# Altium footprint library PAL.PcbLib: 209 footprints (part 2 of 14)
Each footprint in its own frame and in the unit in brackets; x right, y up, seen from the top. Pads: shape width x height; smd on the part's side, far side on the other; paste and mask are expansions set on the pad; w line width, h text height; cw(c..) or ccw(c..) is an arc to the next point about the centre after c.
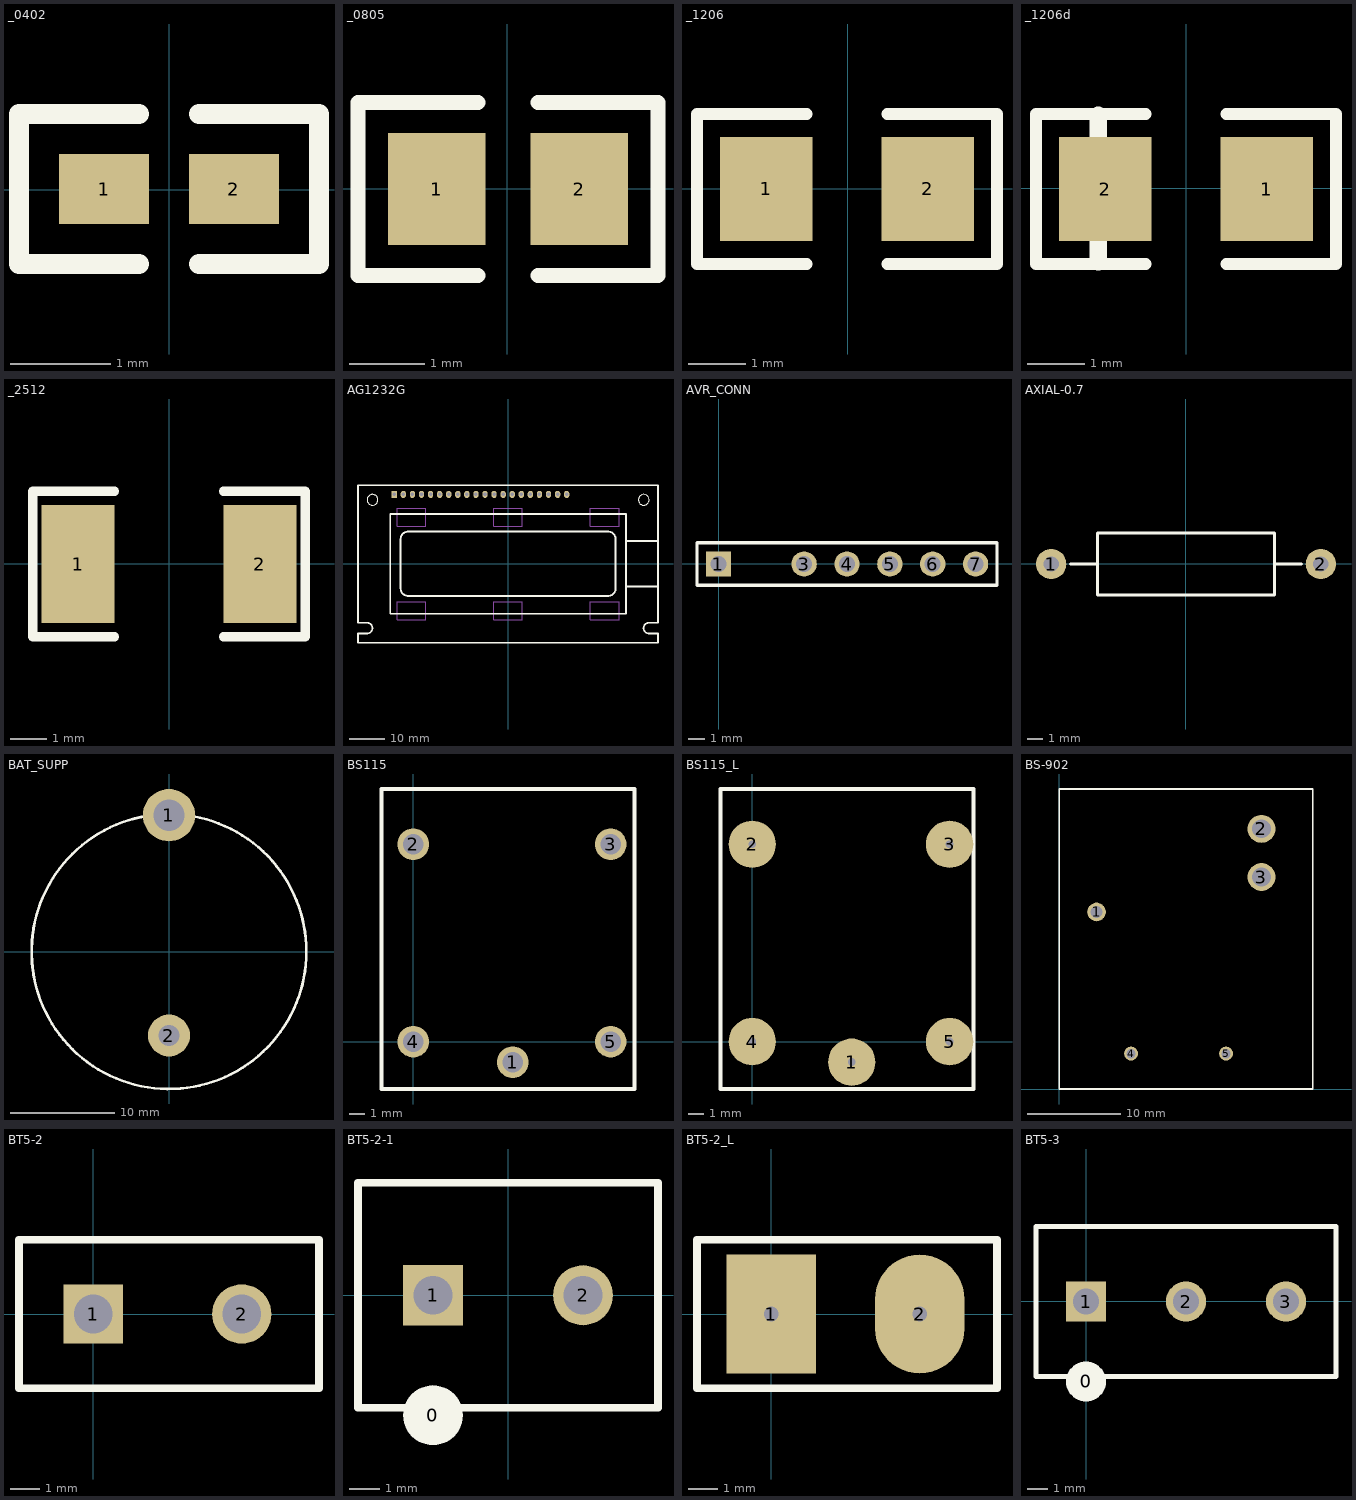
[diagram p1: the footprints below, top view; thin cyan lines are the x and y axes]

## _0402 [mm]
pads (2):
  rect 0.9x0.7 smd: 1(-0.651,0.007) 2(0.649,0.007)
Top Overlay:
  lines w0.2: -0.301,-0.743 -1.501,-0.743 -1.501,0.757 -0.301,0.757 ; 0.299,-0.743 1.499,-0.743 1.499,0.757 0.299,0.757

## _0805 [mm]
pads (2):
  rect 1.3x1.5 smd: 1(-0.942,-0.005) 2(0.958,-0.005)
Top Overlay:
  lines w0.2: -0.392,-1.155 -1.992,-1.155 -1.992,1.145 -0.392,1.145 ; 0.408,-1.155 2.008,-1.155 2.008,1.145 0.408,1.145

## _1206 [mm]
pads (2):
  rect 1.6x1.8 smd: 1(-1.412,-0.007) 2(1.388,-0.007)
Top Overlay:
  lines w0.2: -0.712,-1.307 -2.612,-1.307 -2.612,1.293 -0.712,1.293 ; 0.688,-1.307 2.588,-1.307 2.588,1.293 0.688,1.293

## _1206d [mm]
pads (2):
  rect 1.6x1.8 smd: 1(1.395,-0.009) 2(-1.405,-0.009)
Top Overlay:
  lines w0.2: -0.705,-1.309 -2.605,-1.309 -2.605,1.291 -0.705,1.291 ; 0.695,-1.309 2.595,-1.309 2.595,1.291 0.695,1.291
  lines w0.3: -1.524,-1.27 -1.524,1.27

## _2512 [mm]
pads (2):
  rect 2x3.25 smd: 1(-2.501,-0.008) 2(2.499,-0.008)
Top Overlay:
  lines w0.254: -1.501,-2.008 -3.751,-2.008 -3.751,1.992 -1.501,1.992 ; 1.499,-2.008 3.749,-2.008 3.749,1.992 1.499,1.992

## AG1232G [mm]
pads (20):
  rect 1.5x2 hole 1: 1(-31.872,19.422)
  oval 1.5x2 hole 1: 2(-29.332,19.422) 3(-26.792,19.422) 4(-24.252,19.422) 5(-21.712,19.422) 6(-19.172,19.422) 7(-16.632,19.422) 8(-14.092,19.422) 9(-11.552,19.422) 10(-9.012,19.422) 11(-6.472,19.422) 12(-3.932,19.422) 13(-1.392,19.422) 14(1.148,19.422) 15(3.688,19.422) 16(6.228,19.422) 17(8.768,19.422) 18(11.308,19.422) 19(13.848,19.422) 20(16.388,19.422)
Top Overlay:
  circle w0.254: c-37.968,17.898 r1.5
  circle w0.254: c37.978,17.898 r1.5
  circle w0.5: c-27.935,-9.026 r0
  lines w0.48: -39.492,-19.543 ccw(c-39.492,-18.043) -39.492,-16.543 ; 39.428,-19.543 cw(c39.428,-18.043) 39.428,-16.543
  lines w0.5: -42.008,-19.543 -42.032,-19.567 ; -39.516,-19.567 -42.032,-19.567 ; -39.492,-16.543 -42.008,-16.543 -42.032,-16.519 -42.032,21.962 41.915,21.962 41.968,21.909 ; 33.025,-6.359 41.968,-6.359 ; 33.025,6.341 41.968,6.341 ; 39.428,-16.543 41.944,-16.543 ; 39.452,-19.567 41.968,-19.567 41.968,-22.107 -42.032,-22.107 -42.032,-19.567 ; 41.968,-16.519 41.968,21.962 ; -33.015,-13.979 0.005,-13.979 33.025,-13.979 33.025,-0.009 33.025,13.961 0.005,13.961 -33.015,13.961 -33.015,-0.009 -33.015,-13.979 ; -30.094,-6.994 ccw(c-27.998,-6.93) -27.935,-9.026 0.005,-9.026 27.945,-9.026 ccw(c28.009,-6.93) 30.104,-6.994 30.104,-0.009 30.104,6.976 ccw(c28.009,6.913) 27.945,9.008 0.005,9.008 -27.935,9.008 ccw(c-27.998,6.913) -30.094,6.976 -30.094,-0.009 -30.094,-6.994
Mechanical 1:
  lines w0.3: -3.993,10.537 -3.993,15.537 ; -3.993,10.537 4.007,10.537 ; -3.993,10.537 -3.993,15.537 ; -3.993,10.537 4.007,10.537 ; -3.993,15.537 4.007,15.537 ; -3.993,15.537 4.007,15.537 ; 4.007,10.537 4.007,15.537 ; 4.007,10.537 4.007,15.537 ; -31.044,-15.625 -31.044,-10.625 -23.044,-10.625 -23.044,-15.625 -31.044,-15.625 ; -31.044,10.537 -31.044,15.537 -23.044,15.537 -23.044,10.537 -31.044,10.537 ; -3.993,-15.625 -3.993,-10.625 4.007,-10.625 4.007,-15.625 -3.993,-15.625 ; 23.058,-15.625 23.058,-10.625 31.058,-10.625 31.058,-15.625 23.058,-15.625 ; 23.058,10.537 23.058,15.537 31.058,15.537 31.058,10.537 23.058,10.537

## AVR_CONN [mm]
pads (6):
  rect 1.5x1.5 hole 0.95: 1(-0.007,-0.001)
  round 1.5 hole 0.95: 3(5.073,-0.001) 4(7.613,-0.001) 5(10.153,-0.001) 6(12.693,-0.001) 7(15.233,-0.001)
Top Overlay:
  lines w0.2: -1.277,-1.271 -1.277,1.269 16.503,1.269 16.503,-1.271 -1.277,-1.271

## AXIAL-0.7 [mm]
pads (2):
  round 2 hole 1: 1(-8.887,-0.008) 2(8.893,-0.008)
Top Overlay:
  lines w0.2: -7.617,-0.008 -5.839,-0.008 ; 5.845,-0.008 7.623,-0.008 ; -5.839,-2.04 -5.839,2.024 5.845,2.024 5.845,-2.04 -5.839,-2.04

## BAT_SUPP [mm]
pads (2):
  round 5 hole 3: 1(-0.009,12.995)
  round 4 hole 2: 2(-0.009,-8.005)
Top Overlay:
  circle w0.254: c-0.009,-0.005 r13.1

## BS115 [mm]
pads (5):
  round 2 hole 1.3: 1(6.292,-1.304) 2(-0.008,12.496) 3(12.492,12.496) 4(-0.008,-0.004) 5(12.492,-0.004)
Top Overlay:
  lines w0.254: -2.008,-3.004 -2.008,15.996 13.992,15.996 13.992,-3.004 6.292,-3.004 -2.008,-3.004

## BS115_L [mm]
pads (5):
  round 3 hole 0.5: 1(6.292,-1.304) 2(-0.008,12.496) 3(12.492,12.496) 4(-0.008,-0.004) 5(12.492,-0.004)
Top Overlay:
  lines w0.254: -2.008,-3.004 -2.008,15.996 13.992,15.996 13.992,-3.004 6.292,-3.004 -2.008,-3.004

## BS-902 [mm]
pads (5):
  round 2 hole 1.3: 1(3.994,19.007)
  round 3 hole 2: 2(21.694,27.932) 3(21.694,22.757)
  round 1.5 hole 1: 4(7.694,3.807) 5(17.894,3.807)
Top Overlay:
  lines w0.2: -0.006,0.007 -0.006,32.207 27.194,32.207 27.194,0.007 -0.006,0.007

## BT5-2 [mm]
pads (2):
  rect 2x2 hole 1.3: 1(0.006,0.008)
  round 2 hole 1.3: 2(5.006,0.008)
Top Overlay:
  lines w0.254: -2.494,1.508 -2.494,2.508 7.606,2.508 7.606,-2.492 -2.494,-2.492 -2.494,2.008

## BT5-2-1 [mm]
pads (3):
  round 2 on Top Overlay: 0(-2.5,-4)
  rect 2x2 hole 1.3: 1(-2.5,0)
  round 2 hole 1.3: 2(2.5,0)
Top Overlay:
  lines w0.254: -5,-3.75 -5,3.75 5,3.75 5,-3.75 -5,-3.75

## BT5-2_L [mm]
pads (2):
  rect 3x4 hole 0.5: 1(0.006,0.008)
  oval 3x4 hole 0.5: 2(5.006,0.008)
Top Overlay:
  lines w0.254: -2.494,1.508 -2.494,2.508 7.606,2.508 7.606,-2.492 -2.494,-2.492 -2.494,2.008

## BT5-3 [mm]
pads (4):
  round 2 on Top Overlay: 0(-0.001,-4.001)
  rect 2x2 hole 1.3: 1(-0.001,-0.001)
  round 2 hole 1.3: 2(4.999,-0.001) 3(9.999,-0.001)
Top Overlay:
  lines w0.254: -2.501,1.499 -2.501,2.499 ; -2.501,-3.751 12.499,-3.751 12.499,3.749 -2.501,3.749 -2.501,-3.751